# EAGLE library part MK60F*?12 (library MCU)
Freescale K60P144M120SF3 Series K60 Sub-Family Supports the following: MK60FX512VLQ12, MK60FN1M0VLQ12, MK60FX512VMD12, MK60FN1M0VMD12 Auto generated by make-symbol-device-package-bsdl.ulp Rev. 43 Source:
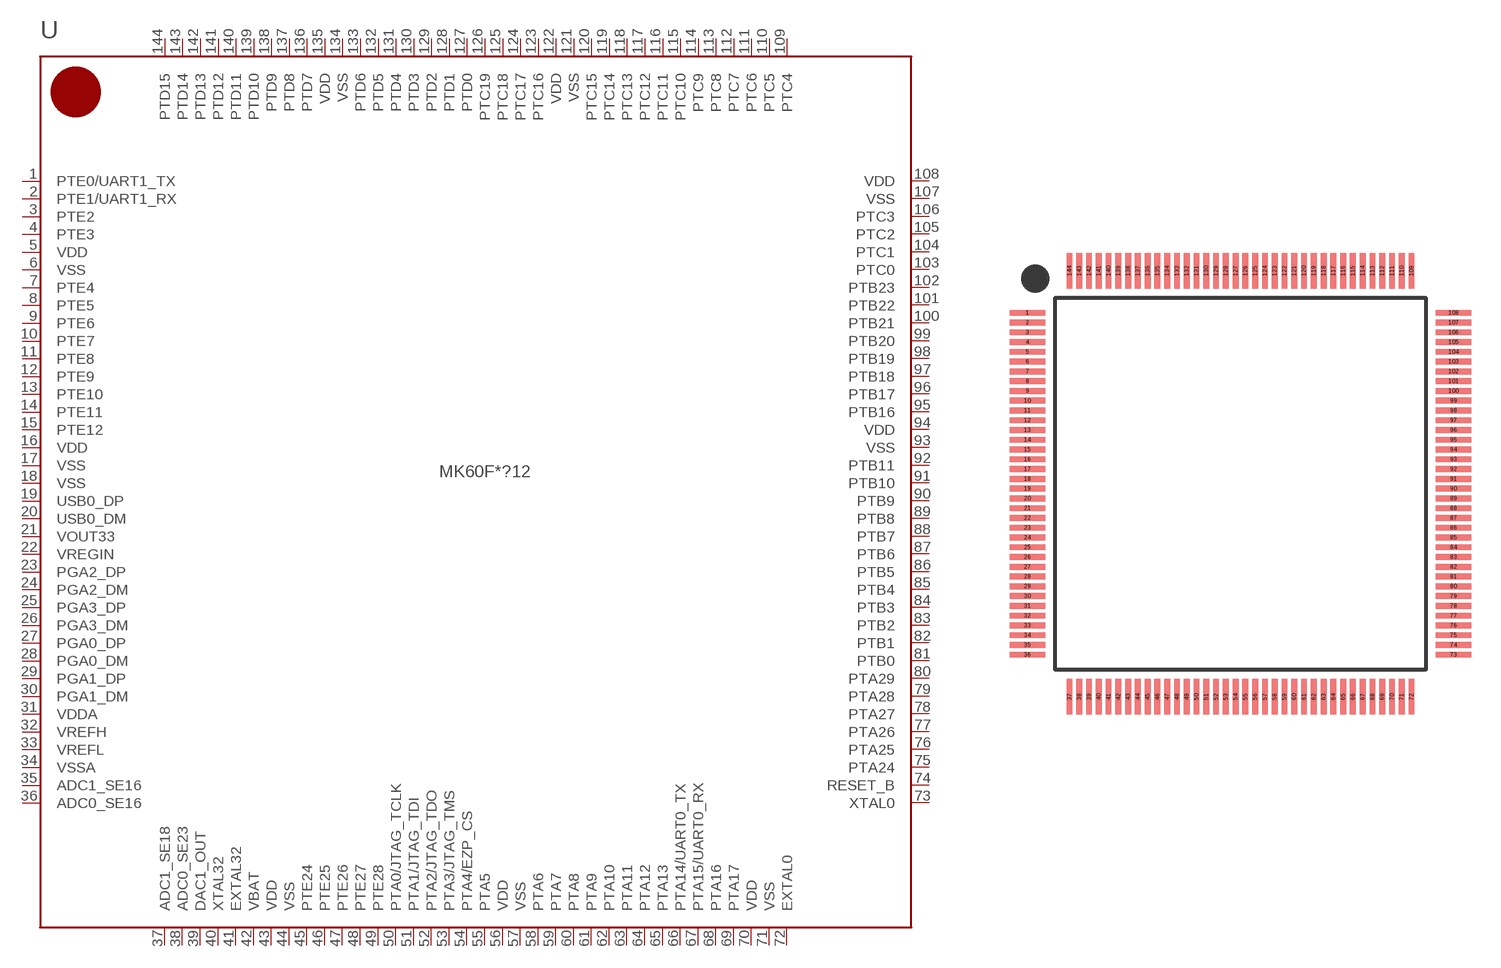
[diagram p5: symbol with the pads of LQFP-144; footprint LQFP-144]

Designator prefix U

## MK60FN1M0VLQ12 (MEMSIZE: 1M0=1 MB; MEMTYPE: N= Flash Only; PARTNO: 01-100486-00; TEMP: V= -40 to 105)  [LQFP-144]
1  PTE0/UART1_TX
2  PTE1/UART1_RX
3  PTE2
4  PTE3
5  VDD  pwr
6  VSS  pwr
7  PTE4
8  PTE5
9  PTE6
10  PTE7
11  PTE8
12  PTE9
13  PTE10
14  PTE11
15  PTE12
16  VDD  pwr
17  VSS  pwr
18  VSS  pwr
19  USB0_DP
20  USB0_DM
21  VOUT33  out
22  VREGIN  in
23  PGA2_DP
24  PGA2_DM
25  PGA3_DP
26  PGA3_DM
27  PGA0_DP
28  PGA0_DM
29  PGA1_DP
30  PGA1_DM
31  VDDA  pwr
32  VREFH  in
33  VREFL  in
34  VSSA  pwr
35  ADC1_SE16
36  ADC0_SE16
37  ADC1_SE18
38  ADC0_SE23
39  DAC1_OUT
40  XTAL32  in
41  EXTAL32  in
42  VBAT  pwr
43  VDD  pwr
44  VSS  pwr
45  PTE24
46  PTE25
47  PTE26
48  PTE27
49  PTE28
50  PTA0/JTAG_TCLK
51  PTA1/JTAG_TDI
52  PTA2/JTAG_TDO
53  PTA3/JTAG_TMS
54  PTA4/EZP_CS
55  PTA5
56  VDD  pwr
57  VSS  pwr
58  PTA6
59  PTA7
60  PTA8
61  PTA9
62  PTA10
63  PTA11
64  PTA12
65  PTA13
66  PTA14/UART0_TX
67  PTA15/UART0_RX
68  PTA16
69  PTA17
70  VDD  pwr
71  VSS  pwr
72  EXTAL0  in
73  XTAL0  in
74  RESET_B
75  PTA24
76  PTA25
77  PTA26
78  PTA27
79  PTA28
80  PTA29
81  PTB0
82  PTB1
83  PTB2
84  PTB3
85  PTB4
86  PTB5
87  PTB6
88  PTB7
89  PTB8
90  PTB9
91  PTB10
92  PTB11
93  VSS  pwr
94  VDD  pwr
95  PTB16
96  PTB17
97  PTB18
98  PTB19
99  PTB20
100  PTB21
101  PTB22
102  PTB23
103  PTC0
104  PTC1
105  PTC2
106  PTC3
107  VSS  pwr
108  VDD  pwr
109  PTC4
110  PTC5
111  PTC6
112  PTC7
113  PTC8
114  PTC9
115  PTC10
116  PTC11
117  PTC12
118  PTC13
119  PTC14
120  PTC15
121  VSS  pwr
122  VDD  pwr
123  PTC16
124  PTC17
125  PTC18
126  PTC19
127  PTD0
128  PTD1
129  PTD2
130  PTD3
131  PTD4
132  PTD5
133  PTD6
134  VSS  pwr
135  VDD  pwr
136  PTD7
137  PTD8
138  PTD9
139  PTD10
140  PTD11
141  PTD12
142  PTD13
143  PTD14
144  PTD15

## Footprint LQFP-144 (pad centres in mm)
LQFP-144 Auto generated by make-symbol-device-package-bsdl.ulp Rev. 43 Used Freescale Document 98ASS23177W as basis Package Settings: L/L1: 22 D/D1: 20 m:1 b:0.27 e:0.5 w:0.8 x:1.8 y:0.3 r:0 Grid:MM
smd 1.8 x 0.3: 1 -10.9,8.75; 2 -10.9,8.25; 3 -10.9,7.75; 4 -10.9,7.25; 5 -10.9,6.75; 6 -10.9,6.25; 7 -10.9,5.75; 8 -10.9,5.25; 9 -10.9,4.75; 10 -10.9,4.25; 11 -10.9,3.75; 12 -10.9,3.25; 13 -10.9,2.75; 14 -10.9,2.25; 15 -10.9,1.75; 16 -10.9,1.25; 17 -10.9,0.75; 18 -10.9,0.25; 19 -10.9,-0.25; 20 -10.9,-0.75; 21 -10.9,-1.25; 22 -10.9,-1.75; 23 -10.9,-2.25; 24 -10.9,-2.75; 25 -10.9,-3.25; 26 -10.9,-3.75; 27 -10.9,-4.25; 28 -10.9,-4.75; 29 -10.9,-5.25; 30 -10.9,-5.75; 31 -10.9,-6.25; 32 -10.9,-6.75; 33 -10.9,-7.25; 34 -10.9,-7.75; 35 -10.9,-8.25; 36 -10.9,-8.75; 73 10.9,-8.75; 74 10.9,-8.25; 75 10.9,-7.75; 76 10.9,-7.25; 77 10.9,-6.75; 78 10.9,-6.25; 79 10.9,-5.75; 80 10.9,-5.25; 81 10.9,-4.75; 82 10.9,-4.25; 83 10.9,-3.75; 84 10.9,-3.25; 85 10.9,-2.75; 86 10.9,-2.25; 87 10.9,-1.75; 88 10.9,-1.25; 89 10.9,-0.75; 90 10.9,-0.25; 91 10.9,0.25; 92 10.9,0.75; 93 10.9,1.25; 94 10.9,1.75; 95 10.9,2.25; 96 10.9,2.75; 97 10.9,3.25; 98 10.9,3.75; 99 10.9,4.25; 100 10.9,4.75; 101 10.9,5.25; 102 10.9,5.75; 103 10.9,6.25; 104 10.9,6.75; 105 10.9,7.25; 106 10.9,7.75; 107 10.9,8.25; 108 10.9,8.75
smd 0.3 x 1.8: 37 -8.75,-10.9; 38 -8.25,-10.9; 39 -7.75,-10.9; 40 -7.25,-10.9; 41 -6.75,-10.9; 42 -6.25,-10.9; 43 -5.75,-10.9; 44 -5.25,-10.9; 45 -4.75,-10.9; 46 -4.25,-10.9; 47 -3.75,-10.9; 48 -3.25,-10.9; 49 -2.75,-10.9; 50 -2.25,-10.9; 51 -1.75,-10.9; 52 -1.25,-10.9; 53 -0.75,-10.9; 54 -0.25,-10.9; 55 0.25,-10.9; 56 0.75,-10.9; 57 1.25,-10.9; 58 1.75,-10.9; 59 2.25,-10.9; 60 2.75,-10.9; 61 3.25,-10.9; 62 3.75,-10.9; 63 4.25,-10.9; 64 4.75,-10.9; 65 5.25,-10.9; 66 5.75,-10.9; 67 6.25,-10.9; 68 6.75,-10.9; 69 7.25,-10.9; 70 7.75,-10.9; 71 8.25,-10.9; 72 8.75,-10.9; 109 8.75,10.9; 110 8.25,10.9; 111 7.75,10.9; 112 7.25,10.9; 113 6.75,10.9; 114 6.25,10.9; 115 5.75,10.9; 116 5.25,10.9; 117 4.75,10.9; 118 4.25,10.9; 119 3.75,10.9; 120 3.25,10.9; 121 2.75,10.9; 122 2.25,10.9; 123 1.75,10.9; 124 1.25,10.9; 125 0.75,10.9; 126 0.25,10.9; 127 -0.25,10.9; 128 -0.75,10.9; 129 -1.25,10.9; 130 -1.75,10.9; 131 -2.25,10.9; 132 -2.75,10.9; 133 -3.25,10.9; 134 -3.75,10.9; 135 -4.25,10.9; 136 -4.75,10.9; 137 -5.25,10.9; 138 -5.75,10.9; 139 -6.25,10.9; 140 -6.75,10.9; 141 -7.25,10.9; 142 -7.75,10.9; 143 -8.25,10.9; 144 -8.75,10.9